# Altium schematic symbol library Thermistor - NTC.SchLib: 283 symbols (part 2 of 5)
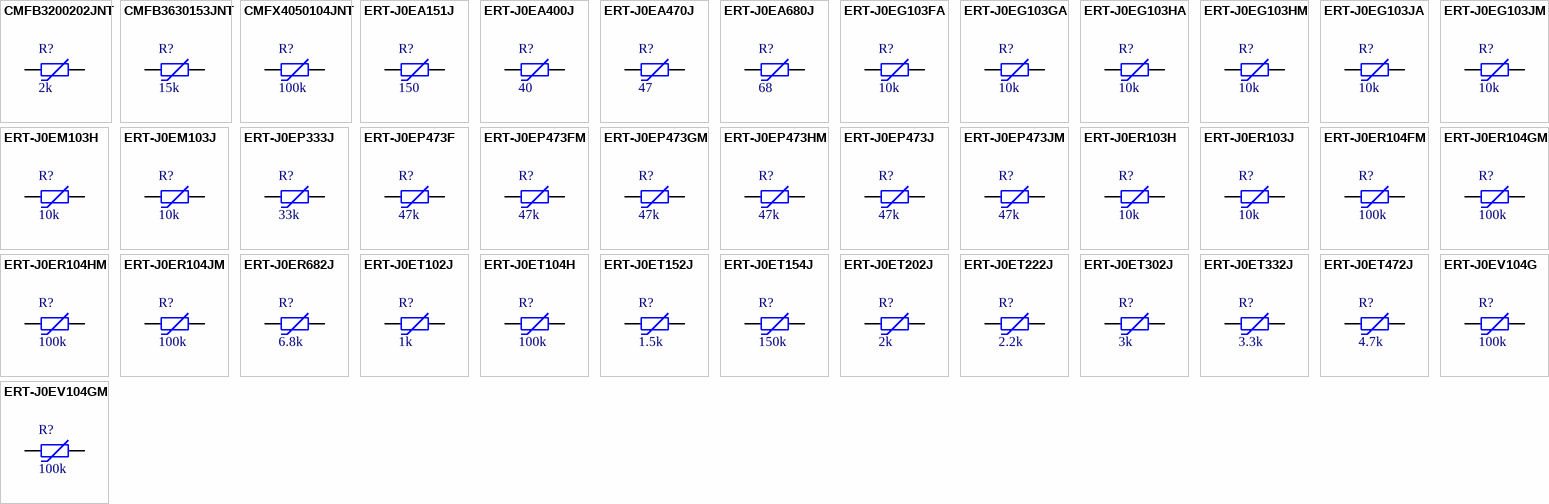
[diagram p8: symbols CMFB3200202JNT to ERT-J0EV104GM]

## ERT-J0ER104GM
designator R?  Resistance in Ohms @ 25C: 100k
SIZE 0402 / RESISTANCE TOLERANCE; Part Number: ERT-J0ER104GM; Manufacturer: Panasonic Electronic Components; Value: 100k; TemperatureRange: -40C ~ 150C; Resistance Tolerance: 2%; B Value Tolerance: 1%; B25/50: 4100K; B25/85: 4300K; Power - Max: 66mW; PartId: 16521; Supplier 1: Digi-Key; Supplier Part Number 1: P19108TR-ND; ComponentLink1Description: Datasheet; ComponentLink1URL: https://industrial.panasonic.com/cdbs/www-data/pdf/AUA0000/AUA0000CE2.pdf; ComponentLink2Description: Digi-Key Listing; ComponentLink2URL: https://www.digikey.com/product-detail/en/panasonic-electronic-components/ERT-J0ER104GM/P19108TR-ND/5878754; Price: 0.0642; Device Package: 0402 (1005 Metric)
footprint FER 0402/1005
pins: 1, 2

## ERT-J0ER104HM
designator R?  Resistance in Ohms @ 25C: 100k
SIZE 0402 / RESISTANCE TOLERANCE; Part Number: ERT-J0ER104HM; Manufacturer: Panasonic Electronic Components; Value: 100k; TemperatureRange: -40C ~ 150C; Resistance Tolerance: 3%; B Value Tolerance: 1%; B25/50: 4100K; B25/85: 4300K; Power - Max: 66mW; PartId: 16524; Supplier 1: Digi-Key; Supplier Part Number 1: P19109TR-ND; ComponentLink1Description: Datasheet; ComponentLink1URL: https://industrial.panasonic.com/cdbs/www-data/pdf/AUA0000/AUA0000CE2.pdf; ComponentLink2Description: Digi-Key Listing; ComponentLink2URL: https://www.digikey.com/product-detail/en/panasonic-electronic-components/ERT-J0ER104HM/P19109TR-ND/5878755; Price: 0.056; Device Package: 0402 (1005 Metric)
footprint FER 0402/1005
pins: 1, 2

## ERT-J0ER104JM
designator R?  Resistance in Ohms @ 25C: 100k
SIZE 0402 / RESISTANCE TOLERANCE; Part Number: ERT-J0ER104JM; Manufacturer: Panasonic Electronic Components; Value: 100k; TemperatureRange: -40C ~ 150C; Resistance Tolerance: 5%; B Value Tolerance: 1%; B25/50: 4100K; B25/85: 4300K; Power - Max: 66mW; PartId: 16527; Supplier 1: Digi-Key; Supplier Part Number 1: P19110TR-ND; ComponentLink1Description: Datasheet; ComponentLink1URL: https://industrial.panasonic.com/cdbs/www-data/pdf/AUA0000/AUA0000CE2.pdf; ComponentLink2Description: Digi-Key Listing; ComponentLink2URL: https://www.digikey.com/product-detail/en/panasonic-electronic-components/ERT-J0ER104JM/P19110TR-ND/5878756; Price: 0.0465; Device Package: 0402 (1005 Metric)
footprint FER 0402/1005
pins: 1, 2

## ERT-J0ER682J
designator R?  Resistance in Ohms @ 25C: 6.8k
THERMISTOR NTC 6.8K OHM 5% 0402; Part Number: ERT-J0ER682J; Manufacturer: Panasonic Electronic Components; TemperatureRange: -40C ~ 125C; B Value Tolerance: 2%; B25/50: 4250K; B25/85: 4300K; Power - Max: 66mW; Value: 6.8k; PartId: 16554; Supplier 1: Digi-Key; Supplier Part Number 1: P10573TR-ND; ComponentLink1Description: Datasheet; ComponentLink1URL: http://industrial.panasonic.com/www-cgi/jvcr13pz.cgi?E+PZ+3+AUA0001+ERTJ0ER682J+7+WW; ComponentLink2Description: Digi-Key Listing; ComponentLink2URL: https://www.digikey.com/product-detail/en/panasonic-electronic-components/ERT-J0ER682J/P10573TR-ND/269379; Price: 0.0616; Resistance Tolerance: 5%; Device Package: 0402 (1005 Metric)
footprint FER 0402/1005
pins: 1, 2

## ERT-J0ET102J
designator R?  Resistance in Ohms @ 25C: 1k
THERMISTOR NTC 1K OHM 5% 0402; Part Number: ERT-J0ET102J; Manufacturer: Panasonic Electronic Components; TemperatureRange: -40C ~ 125C; B Value Tolerance: 2%; B25/50: 4500K; B25/85: 4450K; Power - Max: 66mW; Value: 1k; PartId: 16569; Supplier 1: Digi-Key; Supplier Part Number 1: P10564TR-ND; ComponentLink1Description: Datasheet; ComponentLink1URL: http://industrial.panasonic.com/www-cgi/jvcr13pz.cgi?E+PZ+3+AUA0001+ERTJ0ET102J+7+WW; ComponentLink2Description: Digi-Key Listing; ComponentLink2URL: https://www.digikey.com/product-detail/en/panasonic-electronic-components/ERT-J0ET102J/P10564TR-ND/269370; Price: 0.0616; Resistance Tolerance: 5%; Device Package: 0402 (1005 Metric)
footprint FER 0402/1005
pins: 1, 2

## ERT-J0ET104H
designator R?  Resistance in Ohms @ 25C: 100k
THERMISTOR NTC 100K OHM 3% 0402; Part Number: ERT-J0ET104H; Manufacturer: Panasonic Electronic Components; TemperatureRange: -40C ~ 125C; B Value Tolerance: 2%; B25/50: 4500K; B25/85: 4450K; Power - Max: 66mW; Value: 100k; PartId: 16507; Supplier 1: Digi-Key; Supplier Part Number 1: P13704TR-ND; ComponentLink1Description: Datasheet; ComponentLink1URL: http://industrial.panasonic.com/www-cgi/jvcr13pz.cgi?E+PZ+3+AUA0001+ERTJ0ET104H+7+WW; ComponentLink2Description: Digi-Key Listing; ComponentLink2URL: https://www.digikey.com/product-detail/en/panasonic-electronic-components/ERT-J0ET104H/P13704TR-ND/1632231; Price: 0.0843; Resistance Tolerance: 3%; Device Package: 0402 (1005 Metric)
footprint FER 0402/1005
pins: 1, 2

## ERT-J0ET152J
designator R?  Resistance in Ohms @ 25C: 1.5k
THERMISTOR NTC 1.5K OHM 5% 0402; Part Number: ERT-J0ET152J; Manufacturer: Panasonic Electronic Components; TemperatureRange: -40C ~ 125C; B Value Tolerance: 2%; B25/50: 4500K; B25/85: 4450K; Power - Max: 66mW; Value: 1.5k; PartId: 16548; Supplier 1: Digi-Key; Supplier Part Number 1: P10565TR-ND; ComponentLink1Description: Datasheet; ComponentLink1URL: http://industrial.panasonic.com/www-cgi/jvcr13pz.cgi?E+PZ+3+AUA0001+ERTJ0ET152J+7+WW; ComponentLink2Description: Digi-Key Listing; ComponentLink2URL: https://www.digikey.com/product-detail/en/panasonic-electronic-components/ERT-J0ET152J/P10565TR-ND/269371; Price: 0.0616; Resistance Tolerance: 5%; Device Package: 0402 (1005 Metric)
footprint FER 0402/1005
pins: 1, 2

## ERT-J0ET154J
designator R?  Resistance in Ohms @ 25C: 150k
THERMISTOR NTC 150K OHM 5% 0402; Part Number: ERT-J0ET154J; Manufacturer: Panasonic Electronic Components; TemperatureRange: -40C ~ 125C; B Value Tolerance: 2%; B25/50: 4500K; B25/85: 4450K; Power - Max: 66mW; Value: 150k; PartId: 16542; Supplier 1: Digi-Key; Supplier Part Number 1: P13581TR-ND; ComponentLink1Description: Datasheet; ComponentLink1URL: http://industrial.panasonic.com/www-cgi/jvcr13pz.cgi?E+PZ+3+AUA0001+ERTJ0ET154J+7+WW; ComponentLink2Description: Digi-Key Listing; ComponentLink2URL: https://www.digikey.com/product-detail/en/panasonic-electronic-components/ERT-J0ET154J/P13581TR-ND/1140498; Price: 0.1471; Resistance Tolerance: 5%; Device Package: 0402 (1005 Metric)
footprint FER 0402/1005
pins: 1, 2

## ERT-J0ET202J
designator R?  Resistance in Ohms @ 25C: 2k
THERMISTOR NTC 2.0K OHM 5% 0402; Part Number: ERT-J0ET202J; Manufacturer: Panasonic Electronic Components; Value: 2k; TemperatureRange: -40C ~ 125C; B Value Tolerance: 2%; B25/50: 4500K; B25/85: 4450K; Power - Max: 66mW; PartId: 16498; Supplier 1: Digi-Key; Supplier Part Number 1: P10566TR-ND; ComponentLink1Description: Datasheet; ComponentLink1URL: http://industrial.panasonic.com/www-cgi/jvcr13pz.cgi?E+PZ+3+AUA0001+ERTJ0ET202J+7+WW; ComponentLink2Description: Digi-Key Listing; ComponentLink2URL: https://www.digikey.com/product-detail/en/panasonic-electronic-components/ERT-J0ET202J/P10566TR-ND/269372; Price: 0.0616; Resistance Tolerance: 5%; Device Package: 0402 (1005 Metric)
footprint FER 0402/1005
pins: 1, 2

## ERT-J0ET222J
designator R?  Resistance in Ohms @ 25C: 2.2k
THERMISTOR NTC 2.2K OHM 5% 0402; Part Number: ERT-J0ET222J; Manufacturer: Panasonic Electronic Components; TemperatureRange: -40C ~ 125C; B Value Tolerance: 2%; B25/50: 4500K; B25/85: 4450K; Power - Max: 66mW; Value: 2.2k; PartId: 16556; Supplier 1: Digi-Key; Supplier Part Number 1: P10567TR-ND; ComponentLink1Description: Datasheet; ComponentLink1URL: http://industrial.panasonic.com/www-cgi/jvcr13pz.cgi?E+PZ+3+AUA0001+ERTJ0ET222J+7+WW; ComponentLink2Description: Digi-Key Listing; ComponentLink2URL: https://www.digikey.com/product-detail/en/panasonic-electronic-components/ERT-J0ET222J/P10567TR-ND/269373; Price: 0.0616; Resistance Tolerance: 5%; Device Package: 0402 (1005 Metric)
footprint FER 0402/1005
pins: 1, 2

## ERT-J0ET302J
designator R?  Resistance in Ohms @ 25C: 3k
THERMISTOR NTC 3.0K OHM 5% 0402; Part Number: ERT-J0ET302J; Manufacturer: Panasonic Electronic Components; Value: 3k; TemperatureRange: -40C ~ 125C; B Value Tolerance: 2%; B25/50: 4500K; B25/85: 4450K; Power - Max: 66mW; PartId: 16489; Supplier 1: Digi-Key; Supplier Part Number 1: P10568TR-ND; ComponentLink1Description: Datasheet; ComponentLink1URL: http://industrial.panasonic.com/www-cgi/jvcr13pz.cgi?E+PZ+3+AUA0001+ERTJ0ET302J+7+WW; ComponentLink2Description: Digi-Key Listing; ComponentLink2URL: https://www.digikey.com/product-detail/en/panasonic-electronic-components/ERT-J0ET302J/P10568TR-ND/269374; Price: 0.0616; Resistance Tolerance: 5%; Device Package: 0402 (1005 Metric)
footprint FER 0402/1005
pins: 1, 2

## ERT-J0ET332J
designator R?  Resistance in Ohms @ 25C: 3.3k
THERMISTOR NTC 3.3K OHM 5% 0402; Part Number: ERT-J0ET332J; Manufacturer: Panasonic Electronic Components; TemperatureRange: -40C ~ 125C; B Value Tolerance: 2%; B25/50: 4500K; B25/85: 4450K; Power - Max: 66mW; Value: 3.3k; PartId: 16555; Supplier 1: Digi-Key; Supplier Part Number 1: P10569TR-ND; ComponentLink1Description: Datasheet; ComponentLink1URL: http://industrial.panasonic.com/www-cgi/jvcr13pz.cgi?E+PZ+3+AUA0001+ERTJ0ET332J+7+WW; ComponentLink2Description: Digi-Key Listing; ComponentLink2URL: https://www.digikey.com/product-detail/en/panasonic-electronic-components/ERT-J0ET332J/P10569TR-ND/269375; Price: 0.0616; Resistance Tolerance: 5%; Device Package: 0402 (1005 Metric)
footprint FER 0402/1005
pins: 1, 2

## ERT-J0ET472J
designator R?  Resistance in Ohms @ 25C: 4.7k
THERMISTOR NTC 4.7K OHM 5% 0402; Part Number: ERT-J0ET472J; Manufacturer: Panasonic Electronic Components; TemperatureRange: -40C ~ 125C; B Value Tolerance: 2%; B25/50: 4500K; B25/85: 4450K; Power - Max: 66mW; Value: 4.7k; PartId: 16547; Supplier 1: Digi-Key; Supplier Part Number 1: P10570TR-ND; ComponentLink1Description: Datasheet; ComponentLink1URL: http://industrial.panasonic.com/www-cgi/jvcr13pz.cgi?E+PZ+3+AUA0001+ERTJ0ET472J+7+WW; ComponentLink2Description: Digi-Key Listing; ComponentLink2URL: https://www.digikey.com/product-detail/en/panasonic-electronic-components/ERT-J0ET472J/P10570TR-ND/269376; Price: 0.0616; Resistance Tolerance: 5%; Device Package: 0402 (1005 Metric)
footprint FER 0402/1005
pins: 1, 2

## ERT-J0EV104G
designator R?  Resistance in Ohms @ 25C: 100k
THERMISTOR NTC 100K OHM 2% 0402; Part Number: ERT-J0EV104G; Manufacturer: Panasonic Electronic Components; TemperatureRange: -40C ~ 125C; B25/50: 4700K; B25/85: 4750K; Power - Max: 66mW; Value: 100k; PartId: 16492; Supplier 1: Digi-Key; Supplier Part Number 1: P13705TR-ND; ComponentLink1Description: Datasheet; ComponentLink1URL: http://industrial.panasonic.com/www-cgi/jvcr13pz.cgi?E+PZ+3+AUA0001+ERTJ0EV104G+7+WW; ComponentLink2Description: Digi-Key Listing; ComponentLink2URL: https://www.digikey.com/product-detail/en/panasonic-electronic-components/ERT-J0EV104G/P13705TR-ND/1632232; Price: 0.1159; Resistance Tolerance: 2%; B Value Tolerance: 2%; Device Package: 0402 (1005 Metric)
footprint FER 0402/1005
pins: 1, 2

## ERT-J0EV104GM
designator R?  Resistance in Ohms @ 25C: 100k
SIZE 0402 / RESISTANCE TOLERANCE; Part Number: ERT-J0EV104GM; Manufacturer: Panasonic Electronic Components; Value: 100k; TemperatureRange: -40C ~ 150C; Resistance Tolerance: 2%; B Value Tolerance: 1%; B25/50: 4700K; B25/85: 4750K; Power - Max: 66mW; PartId: 16522; Supplier 1: Digi-Key; Supplier Part Number 1: P19112TR-ND; ComponentLink1Description: Datasheet; ComponentLink1URL: https://industrial.panasonic.com/cdbs/www-data/pdf/AUA0000/AUA0000CE2.pdf; ComponentLink2Description: Digi-Key Listing; ComponentLink2URL: https://www.digikey.com/product-detail/en/panasonic-electronic-components/ERT-J0EV104GM/P19112TR-ND/5878758; Price: 0.0624; Device Package: 0402 (1005 Metric)
footprint FER 0402/1005
pins: 1, 2

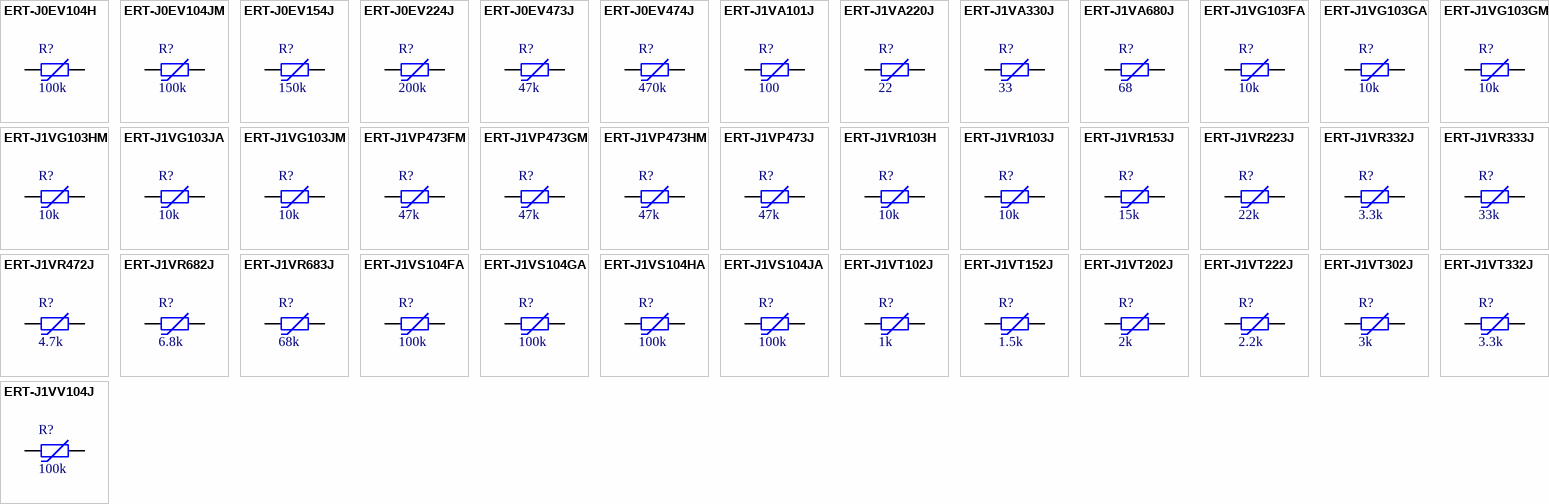
[diagram p2: symbols ERT-J0EV104H to ERT-J1VV104J]

## ERT-J0EV104H
designator R?  Resistance in Ohms @ 25C: 100k
THERMISTOR NTC 100K OHM 3% 0402; Part Number: ERT-J0EV104H; Manufacturer: Panasonic Electronic Components; TemperatureRange: -40C ~ 125C; B Value Tolerance: 2%; B25/50: 4700K; B25/85: 4750K; Power - Max: 66mW; Value: 100k; PartId: 16506; Supplier 1: Digi-Key; Supplier Part Number 1: P13706TR-ND; ComponentLink1Description: Datasheet; ComponentLink1URL: http://industrial.panasonic.com/www-cgi/jvcr13pz.cgi?E+PZ+3+AUA0001+ERTJ0EV104H+7+WW; ComponentLink2Description: Digi-Key Listing; ComponentLink2URL: https://www.digikey.com/product-detail/en/panasonic-electronic-components/ERT-J0EV104H/P13706TR-ND/1632233; Price: 0.0843; Resistance Tolerance: 3%; Device Package: 0402 (1005 Metric)
footprint FER 0402/1005
pins: 1, 2

## ERT-J0EV104JM
designator R?  Resistance in Ohms @ 25C: 100k
SIZE 0402 / RESISTANCE TOLERANCE; Part Number: ERT-J0EV104JM; Manufacturer: Panasonic Electronic Components; Value: 100k; TemperatureRange: -40C ~ 150C; Resistance Tolerance: 5%; B Value Tolerance: 1%; B25/50: 4700K; B25/85: 4750K; Power - Max: 66mW; PartId: 16528; Supplier 1: Digi-Key; Supplier Part Number 1: P19114TR-ND; ComponentLink1Description: Datasheet; ComponentLink1URL: https://industrial.panasonic.com/cdbs/www-data/pdf/AUA0000/AUA0000CE2.pdf; ComponentLink2Description: Digi-Key Listing; ComponentLink2URL: https://www.digikey.com/product-detail/en/panasonic-electronic-components/ERT-J0EV104JM/P19114TR-ND/5878760; Price: 0.0444; Device Package: 0402 (1005 Metric)
footprint FER 0402/1005
pins: 1, 2

## ERT-J0EV154J
designator R?  Resistance in Ohms @ 25C: 150k
THERMISTOR NTC 150K OHM 5% 0402; Part Number: ERT-J0EV154J; Manufacturer: Panasonic Electronic Components; TemperatureRange: -40C ~ 125C; B Value Tolerance: 2%; B25/50: 4700K; B25/85: 4750K; Power - Max: 66mW; Value: 150k; PartId: 16496; Supplier 1: Digi-Key; Supplier Part Number 1: P11443TR-ND; ComponentLink1Description: Datasheet; ComponentLink1URL: http://industrial.panasonic.com/www-cgi/jvcr13pz.cgi?E+PZ+3+AUA0001+ERTJ0EV154J+7+WW; ComponentLink2Description: Digi-Key Listing; ComponentLink2URL: https://www.digikey.com/product-detail/en/panasonic-electronic-components/ERT-J0EV154J/P11443TR-ND/429296; Price: 0.0661; Resistance Tolerance: 5%; Device Package: 0402 (1005 Metric)
footprint FER 0402/1005
pins: 1, 2

## ERT-J0EV224J
designator R?  Resistance in Ohms @ 25C: 200k
THERMISTOR NTC 220K OHM 5% 0402; Part Number: ERT-J0EV224J; Manufacturer: Panasonic Electronic Components; Value: 200k; TemperatureRange: -40C ~ 125C; B Value Tolerance: 2%; B25/50: 4700K; B25/85: 4750K; Power - Max: 66mW; PartId: 16553; Supplier 1: Digi-Key; Supplier Part Number 1: P11444TR-ND; ComponentLink1Description: Datasheet; ComponentLink1URL: http://industrial.panasonic.com/www-cgi/jvcr13pz.cgi?E+PZ+3+AUA0001+ERTJ0EV224J+7+WW; ComponentLink2Description: Digi-Key Listing; ComponentLink2URL: https://www.digikey.com/product-detail/en/panasonic-electronic-components/ERT-J0EV224J/P11444TR-ND/429297; Price: 0.0661; Resistance Tolerance: 5%; Device Package: 0402 (1005 Metric)
footprint FER 0402/1005
pins: 1, 2

## ERT-J0EV473J
designator R?  Resistance in Ohms @ 25C: 47k
THERMISTOR NTC 47K OHM 5% 0402; Part Number: ERT-J0EV473J; Manufacturer: Panasonic Electronic Components; TemperatureRange: -40C ~ 125C; B Value Tolerance: 2%; B25/50: 4700K; B25/85: 4750K; Power - Max: 66mW; Value: 47k; PartId: 16546; Supplier 1: Digi-Key; Supplier Part Number 1: P10578TR-ND; ComponentLink1Description: Datasheet; ComponentLink1URL: http://industrial.panasonic.com/www-cgi/jvcr13pz.cgi?E+PZ+3+AUA0001+ERTJ0EV473J+7+WW; ComponentLink2Description: Digi-Key Listing; ComponentLink2URL: https://www.digikey.com/product-detail/en/panasonic-electronic-components/ERT-J0EV473J/P10578TR-ND/269384; Price: 0.0661; Resistance Tolerance: 5%; Device Package: 0402 (1005 Metric)
footprint FER 0402/1005
pins: 1, 2

## ERT-J0EV474J
designator R?  Resistance in Ohms @ 25C: 470k
THERMISTOR NTC 470K OHM 5% 0402; Part Number: ERT-J0EV474J; Manufacturer: Panasonic Electronic Components; TemperatureRange: -40C ~ 125C; B Value Tolerance: 2%; B25/50: 4700K; B25/85: 4750K; Power - Max: 66mW; Value: 470k; PartId: 16483; Supplier 1: Digi-Key; Supplier Part Number 1: P11446TR-ND; ComponentLink1Description: Datasheet; ComponentLink1URL: http://industrial.panasonic.com/www-cgi/jvcr13pz.cgi?E+PZ+3+AUA0001+ERTJ0EV474J+7+WW; ComponentLink2Description: Digi-Key Listing; ComponentLink2URL: https://www.digikey.com/product-detail/en/panasonic-electronic-components/ERT-J0EV474J/P11446TR-ND/429299; Price: 0.0661; Resistance Tolerance: 5%; Device Package: 0402 (1005 Metric)
footprint FER 0402/1005
pins: 1, 2

## ERT-J1VA101J
designator R?  Resistance in Ohms @ 25C: 100
THERMISTOR NTC 100 OHM 5% 0603; Part Number: ERT-J1VA101J; Manufacturer: Panasonic Electronic Components; Value: 100; TemperatureRange: -40C ~ 125C; B Value Tolerance: 3%; B25/50: 2800K; B25/85: 2750K; Power - Max: 100mW; PartId: 16581; Supplier 1: Digi-Key; Supplier Part Number 1: P10536TR-ND; ComponentLink1Description: Datasheet; ComponentLink1URL: http://industrial.panasonic.com/www-cgi/jvcr13pz.cgi?E+PZ+3+AUA0001+ERTJ1VA101J+7+WW; ComponentLink2Description: Digi-Key Listing; ComponentLink2URL: https://www.digikey.com/product-detail/en/panasonic-electronic-components/ERT-J1VA101J/P10536TR-ND/269342; Price: 0.1058; Resistance Tolerance: 5%; Device Package: 0603 (1608 Metric)
footprint FER 0603/1608
pins: 1, 2

## ERT-J1VA220J
designator R?  Resistance in Ohms @ 25C: 22
THERMISTOR NTC 22 OHM 5% 0603; Part Number: ERT-J1VA220J; Manufacturer: Panasonic Electronic Components; Value: 22; TemperatureRange: -40C ~ 125C; B Value Tolerance: 3%; B25/50: 2750K; B25/85: 2700K; Power - Max: 100mW; PartId: 16690; Supplier 1: Digi-Key; Supplier Part Number 1: P10531TR-ND; ComponentLink1Description: Datasheet; ComponentLink1URL: http://industrial.panasonic.com/www-cgi/jvcr13pz.cgi?E+PZ+3+AUA0001+ERTJ1VA220J+7+WW; ComponentLink2Description: Digi-Key Listing; ComponentLink2URL: https://www.digikey.com/product-detail/en/panasonic-electronic-components/ERT-J1VA220J/P10531TR-ND/269337; Price: 0.1058; Resistance Tolerance: 5%; Device Package: 0603 (1608 Metric)
footprint FER 0603/1608
pins: 1, 2

## ERT-J1VA330J
designator R?  Resistance in Ohms @ 25C: 33
THERMISTOR NTC 33 OHM 5% 0603; Part Number: ERT-J1VA330J; Manufacturer: Panasonic Electronic Components; Value: 33; TemperatureRange: -40C ~ 125C; B Value Tolerance: 3%; B25/50: 2750K; B25/85: 2700K; Power - Max: 100mW; PartId: 16689; Supplier 1: Digi-Key; Supplier Part Number 1: P10532TR-ND; ComponentLink1Description: Datasheet; ComponentLink1URL: http://industrial.panasonic.com/www-cgi/jvcr13pz.cgi?E+PZ+3+AUA0001+ERTJ1VA330J+7+WW; ComponentLink2Description: Digi-Key Listing; ComponentLink2URL: https://www.digikey.com/product-detail/en/panasonic-electronic-components/ERT-J1VA330J/P10532TR-ND/269338; Price: 0.1058; Resistance Tolerance: 5%; Device Package: 0603 (1608 Metric)
footprint FER 0603/1608
pins: 1, 2

## ERT-J1VA680J
designator R?  Resistance in Ohms @ 25C: 68
THERMISTOR NTC 68 OHM 5% 0603; Part Number: ERT-J1VA680J; Manufacturer: Panasonic Electronic Components; Value: 68; TemperatureRange: -40C ~ 125C; B Value Tolerance: 3%; B25/50: 2800K; B25/85: 2750K; Power - Max: 100mW; PartId: 16619; Supplier 1: Digi-Key; Supplier Part Number 1: P10535TR-ND; ComponentLink1Description: Datasheet; ComponentLink1URL: http://industrial.panasonic.com/www-cgi/jvcr13pz.cgi?E+PZ+3+AUA0001+ERTJ1VA680J+7+WW; ComponentLink2Description: Digi-Key Listing; ComponentLink2URL: https://www.digikey.com/product-detail/en/panasonic-electronic-components/ERT-J1VA680J/P10535TR-ND/269341; Price: 0.1058; Resistance Tolerance: 5%; Device Package: 0603 (1608 Metric)
footprint FER 0603/1608
pins: 1, 2

## ERT-J1VG103FA
designator R?  Resistance in Ohms @ 25C: 10k
THERMISTOR NTC 10K OHM 1% 0603; Part Number: ERT-J1VG103FA; Manufacturer: Panasonic Electronic Components; TemperatureRange: -40C ~ 125C; B25/50: 3375K; B25/85: 3435K; Power - Max: 100mW; Value: 10k; PartId: 16577; Supplier 1: Digi-Key; Supplier Part Number 1: P12011TR-ND; ComponentLink1Description: Datasheet; ComponentLink1URL: http://industrial.panasonic.com/www-cgi/jvcr13pz.cgi?E+PZ+3+AUA0001+ERTJ1VG103FA+7+WW; ComponentLink2Description: Digi-Key Listing; ComponentLink2URL: https://www.digikey.com/product-detail/en/panasonic-electronic-components/ERT-J1VG103FA/P12011TR-ND/526532; Price: 0.1595; Resistance Tolerance: 1%; B Value Tolerance: 1%; Device Package: 0603 (1608 Metric)
footprint FER 0603/1608
pins: 1, 2

## ERT-J1VG103GA
designator R?  Resistance in Ohms @ 25C: 10k
THERMISTOR NTC 10K OHM 2% 0603; Part Number: ERT-J1VG103GA; Manufacturer: Panasonic Electronic Components; TemperatureRange: -40C ~ 125C; B Value Tolerance: 1%; B25/50: 3375K; B25/85: 3435K; Power - Max: 100mW; Value: 10k; PartId: 16680; Supplier 1: Digi-Key; Supplier Part Number 1: P12012TR-ND; ComponentLink1Description: Datasheet; ComponentLink1URL: http://industrial.panasonic.com/www-cgi/jvcr13pz.cgi?E+PZ+3+AUA0001+ERTJ1VG103GA+7+WW; ComponentLink2Description: Digi-Key Listing; ComponentLink2URL: https://www.digikey.com/product-detail/en/panasonic-electronic-components/ERT-J1VG103GA/P12012TR-ND/526533; Price: 0.1474; Resistance Tolerance: 2%; Device Package: 0603 (1608 Metric)
footprint FER 0603/1608
pins: 1, 2

## ERT-J1VG103GM
designator R?  Resistance in Ohms @ 25C: 10k
SIZE 0603 / RESISTANCE TOLERANCE; Part Number: ERT-J1VG103GM; Manufacturer: Panasonic Electronic Components; Value: 10k; TemperatureRange: -40C ~ 150C; Resistance Tolerance: 2%; B Value Tolerance: 1%; B25/50: 3380K; B25/85: 3435K; Power - Max: 100mW; PartId: 16657; Supplier 1: Digi-Key; Supplier Part Number 1: P19116TR-ND; ComponentLink1Description: Datasheet; ComponentLink1URL: https://industrial.panasonic.com/cdbs/www-data/pdf/AUA0000/AUA0000CE2.pdf; ComponentLink2Description: Digi-Key Listing; ComponentLink2URL: https://www.digikey.com/product-detail/en/panasonic-electronic-components/ERT-J1VG103GM/P19116TR-ND/5878762; Price: 0.1295; Device Package: 0603 (1608 Metric)
footprint FER 0603/1608
pins: 1, 2

## ERT-J1VG103HM
designator R?  Resistance in Ohms @ 25C: 10k
SIZE 0603 / RESISTANCE TOLERANCE; Part Number: ERT-J1VG103HM; Manufacturer: Panasonic Electronic Components; Value: 10k; TemperatureRange: -40C ~ 150C; Resistance Tolerance: 3%; B Value Tolerance: 1%; B25/50: 3380K; B25/85: 3435K; Power - Max: 100mW; PartId: 16662; Supplier 1: Digi-Key; Supplier Part Number 1: P19117TR-ND; ComponentLink1Description: Datasheet; ComponentLink1URL: https://industrial.panasonic.com/cdbs/www-data/pdf/AUA0000/AUA0000CE2.pdf; ComponentLink2Description: Digi-Key Listing; ComponentLink2URL: https://www.digikey.com/product-detail/en/panasonic-electronic-components/ERT-J1VG103HM/P19117TR-ND/5878763; Price: 0.1221; Device Package: 0603 (1608 Metric)
footprint FER 0603/1608
pins: 1, 2

## ERT-J1VG103JA
designator R?  Resistance in Ohms @ 25C: 10k
THERMISTOR NTC 10K OHM 5% 0603; Part Number: ERT-J1VG103JA; Manufacturer: Panasonic Electronic Components; TemperatureRange: -40C ~ 125C; B Value Tolerance: 1%; B25/50: 3375K; B25/85: 3435K; Power - Max: 100mW; Value: 10k; PartId: 16593; Supplier 1: Digi-Key; Supplier Part Number 1: P12014TR-ND; ComponentLink1Description: Datasheet; ComponentLink1URL: http://industrial.panasonic.com/www-cgi/jvcr13pz.cgi?E+PZ+3+AUA0001+ERTJ1VG103JA+7+WW; ComponentLink2Description: Digi-Key Listing; ComponentLink2URL: https://www.digikey.com/product-detail/en/panasonic-electronic-components/ERT-J1VG103JA/P12014TR-ND/526535; Price: 0.0958; Resistance Tolerance: 5%; Device Package: 0603 (1608 Metric)
footprint FER 0603/1608
pins: 1, 2

## ERT-J1VG103JM
designator R?  Resistance in Ohms @ 25C: 10k
SIZE 0603 / RESISTANCE TOLERANCE; Part Number: ERT-J1VG103JM; Manufacturer: Panasonic Electronic Components; Value: 10k; TemperatureRange: -40C ~ 150C; Resistance Tolerance: 5%; B Value Tolerance: 1%; B25/50: 3380K; B25/85: 3435K; Power - Max: 100mW; PartId: 16663; Supplier 1: Digi-Key; Supplier Part Number 1: P19118TR-ND; ComponentLink1Description: Datasheet; ComponentLink1URL: https://industrial.panasonic.com/cdbs/www-data/pdf/AUA0000/AUA0000CE2.pdf; ComponentLink2Description: Digi-Key Listing; ComponentLink2URL: https://www.digikey.com/product-detail/en/panasonic-electronic-components/ERT-J1VG103JM/P19118TR-ND/5878764; Price: 0.111; Device Package: 0603 (1608 Metric)
footprint FER 0603/1608
pins: 1, 2

## ERT-J1VP473FM
designator R?  Resistance in Ohms @ 25C: 47k
SIZE 0603 / RESISTANCE TOLERANCE; Part Number: ERT-J1VP473FM; Manufacturer: Panasonic Electronic Components; Value: 47k; TemperatureRange: -40C ~ 150C; Resistance Tolerance: 1%; B25/50: 4100K; B25/85: 4150K; Power - Max: 100mW; PartId: 16640; Supplier 1: Digi-Key; Supplier Part Number 1: P19119TR-ND; ComponentLink1Description: Datasheet; ComponentLink1URL: https://industrial.panasonic.com/cdbs/www-data/pdf/AUA0000/AUA0000CE2.pdf; ComponentLink2Description: Digi-Key Listing; ComponentLink2URL: https://www.digikey.com/product-detail/en/panasonic-electronic-components/ERT-J1VP473FM/P19119TR-ND/5878765; Price: 0.1337; B Value Tolerance: 1%; Device Package: 0603 (1608 Metric)
footprint FER 0603/1608
pins: 1, 2

## ERT-J1VP473GM
designator R?  Resistance in Ohms @ 25C: 47k
SIZE 0603 / RESISTANCE TOLERANCE; Part Number: ERT-J1VP473GM; Manufacturer: Panasonic Electronic Components; Value: 47k; TemperatureRange: -40C ~ 150C; Resistance Tolerance: 2%; B Value Tolerance: 1%; B25/50: 4100K; B25/85: 4150K; Power - Max: 100mW; PartId: 16656; Supplier 1: Digi-Key; Supplier Part Number 1: P19120TR-ND; ComponentLink1Description: Datasheet; ComponentLink1URL: https://industrial.panasonic.com/cdbs/www-data/pdf/AUA0000/AUA0000CE2.pdf; ComponentLink2Description: Digi-Key Listing; ComponentLink2URL: https://www.digikey.com/product-detail/en/panasonic-electronic-components/ERT-J1VP473GM/P19120TR-ND/5878766; Price: 0.1295; Device Package: 0603 (1608 Metric)
footprint FER 0603/1608
pins: 1, 2

## ERT-J1VP473HM
designator R?  Resistance in Ohms @ 25C: 47k
SIZE 0603 / RESISTANCE TOLERANCE; Part Number: ERT-J1VP473HM; Manufacturer: Panasonic Electronic Components; Value: 47k; TemperatureRange: -40C ~ 150C; Resistance Tolerance: 3%; B Value Tolerance: 1%; B25/50: 4100K; B25/85: 4150K; Power - Max: 100mW; PartId: 16661; Supplier 1: Digi-Key; Supplier Part Number 1: P19121TR-ND; ComponentLink1Description: Datasheet; ComponentLink1URL: https://industrial.panasonic.com/cdbs/www-data/pdf/AUA0000/AUA0000CE2.pdf; ComponentLink2Description: Digi-Key Listing; ComponentLink2URL: https://www.digikey.com/product-detail/en/panasonic-electronic-components/ERT-J1VP473HM/P19121TR-ND/5878767; Price: 0.1221; Device Package: 0603 (1608 Metric)
footprint FER 0603/1608
pins: 1, 2

## ERT-J1VP473J
designator R?  Resistance in Ohms @ 25C: 47k
THERMISTOR NTC 47K OHM 5% 0603; Part Number: ERT-J1VP473J; Manufacturer: Panasonic Electronic Components; TemperatureRange: -40C ~ 125C; B Value Tolerance: 2%; B25/50: 4050K; B25/85: 4100K; Power - Max: 100mW; Value: 47k; PartId: 16586; Supplier 1: Digi-Key; Supplier Part Number 1: P12015TR-ND; ComponentLink1Description: Datasheet; ComponentLink1URL: http://industrial.panasonic.com/www-cgi/jvcr13pz.cgi?E+PZ+3+AUA0001+ERTJ1VP473J+7+WW; ComponentLink2Description: Digi-Key Listing; ComponentLink2URL: https://www.digikey.com/product-detail/en/panasonic-electronic-components/ERT-J1VP473J/P12015TR-ND/526536; Price: 0.094; Resistance Tolerance: 5%; Device Package: 0603 (1608 Metric)
footprint FER 0603/1608
pins: 1, 2

## ERT-J1VR103H
designator R?  Resistance in Ohms @ 25C: 10k
THERMISTOR NTC 10K OHM 3% 0603; Part Number: ERT-J1VR103H; Manufacturer: Panasonic Electronic Components; TemperatureRange: -40C ~ 125C; B Value Tolerance: 2%; B25/50: 4250K; B25/85: 4300K; Power - Max: 100mW; Value: 10k; PartId: 16611; Supplier 1: Digi-Key; Supplier Part Number 1: P13707TR-ND; ComponentLink1Description: Datasheet; ComponentLink1URL: http://industrial.panasonic.com/www-cgi/jvcr13pz.cgi?E+PZ+3+AUA0001+ERTJ1VR103H+7+WW; ComponentLink2Description: Digi-Key Listing; ComponentLink2URL: https://www.digikey.com/product-detail/en/panasonic-electronic-components/ERT-J1VR103H/P13707TR-ND/486493; Price: 0.1128; Resistance Tolerance: 3%; Device Package: 0603 (1608 Metric)
footprint FER 0603/1608
pins: 1, 2

## ERT-J1VR103J
designator R?  Resistance in Ohms @ 25C: 10k
THERMISTOR NTC 10K OHM 5% 0603; Part Number: ERT-J1VR103J; Manufacturer: Panasonic Electronic Components; TemperatureRange: -40C ~ 125C; B Value Tolerance: 2%; B25/50: 4250K; B25/85: 4300K; Power - Max: 100mW; Value: 10k; PartId: 16590; Supplier 1: Digi-Key; Supplier Part Number 1: P10547TR-ND; ComponentLink1Description: Datasheet; ComponentLink1URL: http://industrial.panasonic.com/www-cgi/jvcr13pz.cgi?E+PZ+3+AUA0001+ERTJ1VR103J+7+WW; ComponentLink2Description: Digi-Key Listing; ComponentLink2URL: https://www.digikey.com/product-detail/en/panasonic-electronic-components/ERT-J1VR103J/P10547TR-ND/269353; Price: 0.094; Resistance Tolerance: 5%; Device Package: 0603 (1608 Metric)
footprint FER 0603/1608
pins: 1, 2

## ERT-J1VR153J
designator R?  Resistance in Ohms @ 25C: 15k
THERMISTOR NTC 15K OHM 5% 0603; Part Number: ERT-J1VR153J; Manufacturer: Panasonic Electronic Components; TemperatureRange: -40C ~ 125C; B Value Tolerance: 2%; B25/50: 4250K; B25/85: 4300K; Power - Max: 100mW; Value: 15k; PartId: 16621; Supplier 1: Digi-Key; Supplier Part Number 1: P10548TR-ND; ComponentLink1Description: Datasheet; ComponentLink1URL: http://industrial.panasonic.com/www-cgi/jvcr13pz.cgi?E+PZ+3+AUA0001+ERTJ1VR153J+7+WW; ComponentLink2Description: Digi-Key Listing; ComponentLink2URL: https://www.digikey.com/product-detail/en/panasonic-electronic-components/ERT-J1VR153J/P10548TR-ND/269354; Price: 0.094; Resistance Tolerance: 5%; Device Package: 0603 (1608 Metric)
footprint FER 0603/1608
pins: 1, 2

## ERT-J1VR223J
designator R?  Resistance in Ohms @ 25C: 22k
THERMISTOR NTC 22K OHM 5% 0603; Part Number: ERT-J1VR223J; Manufacturer: Panasonic Electronic Components; TemperatureRange: -40C ~ 125C; B Value Tolerance: 2%; B25/50: 4250K; B25/85: 4300K; Power - Max: 100mW; Value: 22k; PartId: 16575; Supplier 1: Digi-Key; Supplier Part Number 1: P10549TR-ND; ComponentLink1Description: Datasheet; ComponentLink1URL: http://industrial.panasonic.com/www-cgi/jvcr13pz.cgi?E+PZ+3+AUA0001+ERTJ1VR223J+7+WW; ComponentLink2Description: Digi-Key Listing; ComponentLink2URL: https://www.digikey.com/product-detail/en/panasonic-electronic-components/ERT-J1VR223J/P10549TR-ND/269355; Price: 0.094; Resistance Tolerance: 5%; Device Package: 0603 (1608 Metric)
footprint FER 0603/1608
pins: 1, 2

## ERT-J1VR332J
designator R?  Resistance in Ohms @ 25C: 3.3k
THERMISTOR NTC 3.3K OHM 5% 0603; Part Number: ERT-J1VR332J; Manufacturer: Panasonic Electronic Components; TemperatureRange: -40C ~ 125C; B Value Tolerance: 2%; B25/50: 4250K; B25/85: 4300K; Power - Max: 100mW; Value: 3.3k; PartId: 16600; Supplier 1: Digi-Key; Supplier Part Number 1: P10544TR-ND; ComponentLink1Description: Datasheet; ComponentLink1URL: http://industrial.panasonic.com/www-cgi/jvcr13pz.cgi?E+PZ+3+AUA0001+ERTJ1VR332J+7+WW; ComponentLink2Description: Digi-Key Listing; ComponentLink2URL: https://www.digikey.com/product-detail/en/panasonic-electronic-components/ERT-J1VR332J/P10544TR-ND/269350; Price: 0.094; Resistance Tolerance: 5%; Device Package: 0603 (1608 Metric)
footprint FER 0603/1608
pins: 1, 2

## ERT-J1VR333J
designator R?  Resistance in Ohms @ 25C: 33k
THERMISTOR NTC 33K OHM 5% 0603; Part Number: ERT-J1VR333J; Manufacturer: Panasonic Electronic Components; TemperatureRange: -40C ~ 125C; B Value Tolerance: 2%; B25/50: 4250K; B25/85: 4300K; Power - Max: 100mW; Value: 33k; PartId: 16607; Supplier 1: Digi-Key; Supplier Part Number 1: P10550TR-ND; ComponentLink1Description: Datasheet; ComponentLink1URL: http://industrial.panasonic.com/www-cgi/jvcr13pz.cgi?E+PZ+3+AUA0001+ERTJ1VR333J+7+WW; ComponentLink2Description: Digi-Key Listing; ComponentLink2URL: https://www.digikey.com/product-detail/en/panasonic-electronic-components/ERT-J1VR333J/P10550TR-ND/269356; Price: 0.094; Resistance Tolerance: 5%; Device Package: 0603 (1608 Metric)
footprint FER 0603/1608
pins: 1, 2

## ERT-J1VR472J
designator R?  Resistance in Ohms @ 25C: 4.7k
THERMISTOR NTC 4.7K OHM 5% 0603; Part Number: ERT-J1VR472J; Manufacturer: Panasonic Electronic Components; TemperatureRange: -40C ~ 125C; B Value Tolerance: 2%; B25/50: 4250K; B25/85: 4300K; Power - Max: 100mW; Value: 4.7k; PartId: 16681; Supplier 1: Digi-Key; Supplier Part Number 1: P10545TR-ND; ComponentLink1Description: Datasheet; ComponentLink1URL: http://industrial.panasonic.com/www-cgi/jvcr13pz.cgi?E+PZ+3+AUA0001+ERTJ1VR472J+7+WW; ComponentLink2Description: Digi-Key Listing; ComponentLink2URL: https://www.digikey.com/product-detail/en/panasonic-electronic-components/ERT-J1VR472J/P10545TR-ND/269351; Price: 0.094; Resistance Tolerance: 5%; Device Package: 0603 (1608 Metric)
footprint FER 0603/1608
pins: 1, 2

## ERT-J1VR682J
designator R?  Resistance in Ohms @ 25C: 6.8k
THERMISTOR NTC 6.8K OHM 5% 0603; Part Number: ERT-J1VR682J; Manufacturer: Panasonic Electronic Components; TemperatureRange: -40C ~ 125C; B Value Tolerance: 2%; B25/50: 4250K; B25/85: 4300K; Power - Max: 100mW; Value: 6.8k; PartId: 16588; Supplier 1: Digi-Key; Supplier Part Number 1: P10546TR-ND; ComponentLink1Description: Datasheet; ComponentLink1URL: http://industrial.panasonic.com/www-cgi/jvcr13pz.cgi?E+PZ+3+AUA0001+ERTJ1VR682J+7+WW; ComponentLink2Description: Digi-Key Listing; ComponentLink2URL: https://www.digikey.com/product-detail/en/panasonic-electronic-components/ERT-J1VR682J/P10546TR-ND/269352; Price: 0.094; Resistance Tolerance: 5%; Device Package: 0603 (1608 Metric)
footprint FER 0603/1608
pins: 1, 2

## ERT-J1VR683J
designator R?  Resistance in Ohms @ 25C: 68k
THERMISTOR NTC 68K OHM 5% 0603; Part Number: ERT-J1VR683J; Manufacturer: Panasonic Electronic Components; TemperatureRange: -40C ~ 125C; B Value Tolerance: 2%; B25/50: 4250K; B25/85: 4300K; Power - Max: 100mW; Value: 68k; PartId: 16598; Supplier 1: Digi-Key; Supplier Part Number 1: P10552TR-ND; ComponentLink1Description: Datasheet; ComponentLink1URL: http://industrial.panasonic.com/www-cgi/jvcr13pz.cgi?E+PZ+3+AUA0001+ERTJ1VR683J+7+WW; ComponentLink2Description: Digi-Key Listing; ComponentLink2URL: https://www.digikey.com/product-detail/en/panasonic-electronic-components/ERT-J1VR683J/P10552TR-ND/269358; Price: 0.094; Resistance Tolerance: 5%; Device Package: 0603 (1608 Metric)
footprint FER 0603/1608
pins: 1, 2

## ERT-J1VS104FA
designator R?  Resistance in Ohms @ 25C: 100k
THERMISTOR NTC 100K OHM 1% 0603; Part Number: ERT-J1VS104FA; Manufacturer: Panasonic Electronic Components; TemperatureRange: -40C ~ 125C; B Value Tolerance: 3%; B25/50: 4330K; B25/85: 4390K; Power - Max: 100mW; Value: 100k; PartId: 16599; Supplier 1: Digi-Key; Supplier Part Number 1: P12016TR-ND; ComponentLink1Description: Datasheet; ComponentLink1URL: http://industrial.panasonic.com/www-cgi/jvcr13pz.cgi?E+PZ+3+AUA0001+ERTJ1VS104FA+7+WW; ComponentLink2Description: Digi-Key Listing; ComponentLink2URL: https://www.digikey.com/product-detail/en/panasonic-electronic-components/ERT-J1VS104FA/P12016TR-ND/526537; Price: 0.1742; Resistance Tolerance: 1%; Device Package: 0603 (1608 Metric)
footprint FER 0603/1608
pins: 1, 2

## ERT-J1VS104GA
designator R?  Resistance in Ohms @ 25C: 100k
THERMISTOR NTC 100K OHM 2% 0603; Part Number: ERT-J1VS104GA; Manufacturer: Panasonic Electronic Components; TemperatureRange: -40C ~ 125C; B Value Tolerance: 3%; B25/50: 4330K; B25/85: 4390K; Power - Max: 100mW; Value: 100k; PartId: 16591; Supplier 1: Digi-Key; Supplier Part Number 1: P12017TR-ND; ComponentLink1Description: Datasheet; ComponentLink1URL: http://industrial.panasonic.com/www-cgi/jvcr13pz.cgi?E+PZ+3+AUA0001+ERTJ1VS104GA+7+WW; ComponentLink2Description: Digi-Key Listing; ComponentLink2URL: https://www.digikey.com/product-detail/en/panasonic-electronic-components/ERT-J1VS104GA/P12017TR-ND/526538; Price: 0.1611; Resistance Tolerance: 2%; Device Package: 0603 (1608 Metric)
footprint FER 0603/1608
pins: 1, 2

## ERT-J1VS104HA
designator R?  Resistance in Ohms @ 25C: 100k
THERMISTOR NTC 100K OHM 3% 0603; Part Number: ERT-J1VS104HA; Manufacturer: Panasonic Electronic Components; TemperatureRange: -40C ~ 125C; B25/50: 4330K; B25/85: 4390K; Power - Max: 100mW; Value: 100k; PartId: 16578; Supplier 1: Digi-Key; Supplier Part Number 1: P12018TR-ND; ComponentLink1Description: Datasheet; ComponentLink1URL: http://industrial.panasonic.com/www-cgi/jvcr13pz.cgi?E+PZ+3+AUA0001+ERTJ1VS104HA+7+WW; ComponentLink2Description: Digi-Key Listing; ComponentLink2URL: https://www.digikey.com/product-detail/en/panasonic-electronic-components/ERT-J1VS104HA/P12018TR-ND/526539; Price: 0.1175; Resistance Tolerance: 3%; B Value Tolerance: 3%; Device Package: 0603 (1608 Metric)
footprint FER 0603/1608
pins: 1, 2

## ERT-J1VS104JA
designator R?  Resistance in Ohms @ 25C: 100k
THERMISTOR NTC 100K OHM 5% 0603; Part Number: ERT-J1VS104JA; Manufacturer: Panasonic Electronic Components; TemperatureRange: -40C ~ 125C; B Value Tolerance: 3%; B25/50: 4330K; B25/85: 4390K; Power - Max: 100mW; Value: 100k; PartId: 16601; Supplier 1: Digi-Key; Supplier Part Number 1: P12019TR-ND; ComponentLink1Description: Datasheet; ComponentLink1URL: http://industrial.panasonic.com/www-cgi/jvcr13pz.cgi?E+PZ+3+AUA0001+ERTJ1VS104JA+7+WW; ComponentLink2Description: Digi-Key Listing; ComponentLink2URL: https://www.digikey.com/product-detail/en/panasonic-electronic-components/ERT-J1VS104JA/P12019TR-ND/526540; Price: 0.094; Resistance Tolerance: 5%; Device Package: 0603 (1608 Metric)
footprint FER 0603/1608
pins: 1, 2

## ERT-J1VT102J
designator R?  Resistance in Ohms @ 25C: 1k
THERMISTOR NTC 1K OHM 5% 0603; Part Number: ERT-J1VT102J; Manufacturer: Panasonic Electronic Components; TemperatureRange: -40C ~ 125C; B Value Tolerance: 2%; B25/50: 4500K; B25/85: 4450K; Power - Max: 100mW; Value: 1k; PartId: 16603; Supplier 1: Digi-Key; Supplier Part Number 1: P10537TR-ND; ComponentLink1Description: Datasheet; ComponentLink1URL: http://industrial.panasonic.com/www-cgi/jvcr13pz.cgi?E+PZ+3+AUA0001+ERTJ1VT102J+7+WW; ComponentLink2Description: Digi-Key Listing; ComponentLink2URL: https://www.digikey.com/product-detail/en/panasonic-electronic-components/ERT-J1VT102J/P10537TR-ND/269343; Price: 0.094; Resistance Tolerance: 5%; Device Package: 0603 (1608 Metric)
footprint FER 0603/1608
pins: 1, 2

## ERT-J1VT152J
designator R?  Resistance in Ohms @ 25C: 1.5k
THERMISTOR NTC 1.5K OHM 5% 0603; Part Number: ERT-J1VT152J; Manufacturer: Panasonic Electronic Components; TemperatureRange: -40C ~ 125C; B Value Tolerance: 2%; B25/50: 4500K; B25/85: 4450K; Power - Max: 100mW; Value: 1.5k; PartId: 16576; Supplier 1: Digi-Key; Supplier Part Number 1: P10538TR-ND; ComponentLink1Description: Datasheet; ComponentLink1URL: http://industrial.panasonic.com/www-cgi/jvcr13pz.cgi?E+PZ+3+AUA0001+ERTJ1VT152J+7+WW; ComponentLink2Description: Digi-Key Listing; ComponentLink2URL: https://www.digikey.com/product-detail/en/panasonic-electronic-components/ERT-J1VT152J/P10538TR-ND/269344; Price: 0.094; Resistance Tolerance: 5%; Device Package: 0603 (1608 Metric)
footprint FER 0603/1608
pins: 1, 2

## ERT-J1VT202J
designator R?  Resistance in Ohms @ 25C: 2k
THERMISTOR NTC 2.0K OHM 5% 0603; Part Number: ERT-J1VT202J; Manufacturer: Panasonic Electronic Components; Value: 2k; TemperatureRange: -40C ~ 125C; B Value Tolerance: 2%; B25/50: 4500K; B25/85: 4450K; Power - Max: 100mW; PartId: 16602; Supplier 1: Digi-Key; Supplier Part Number 1: P10539TR-ND; ComponentLink1Description: Datasheet; ComponentLink1URL: http://industrial.panasonic.com/www-cgi/jvcr13pz.cgi?E+PZ+3+AUA0001+ERTJ1VT202J+7+WW; ComponentLink2Description: Digi-Key Listing; ComponentLink2URL: https://www.digikey.com/product-detail/en/panasonic-electronic-components/ERT-J1VT202J/P10539TR-ND/269345; Price: 0.094; Resistance Tolerance: 5%; Device Package: 0603 (1608 Metric)
footprint FER 0603/1608
pins: 1, 2

## ERT-J1VT222J
designator R?  Resistance in Ohms @ 25C: 2.2k
THERMISTOR NTC 2.2K OHM 5% 0603; Part Number: ERT-J1VT222J; Manufacturer: Panasonic Electronic Components; TemperatureRange: -40C ~ 125C; B Value Tolerance: 2%; B25/50: 4500K; B25/85: 4450K; Power - Max: 100mW; Value: 2.2k; PartId: 16633; Supplier 1: Digi-Key; Supplier Part Number 1: P10540TR-ND; ComponentLink1Description: Datasheet; ComponentLink1URL: http://industrial.panasonic.com/www-cgi/jvcr13pz.cgi?E+PZ+3+AUA0001+ERTJ1VT222J+7+WW; ComponentLink2Description: Digi-Key Listing; ComponentLink2URL: https://www.digikey.com/product-detail/en/panasonic-electronic-components/ERT-J1VT222J/P10540TR-ND/269346; Price: 0.094; Resistance Tolerance: 5%; Device Package: 0603 (1608 Metric)
footprint FER 0603/1608
pins: 1, 2

## ERT-J1VT302J
designator R?  Resistance in Ohms @ 25C: 3k
THERMISTOR NTC 3.0K OHM 5% 0603; Part Number: ERT-J1VT302J; Manufacturer: Panasonic Electronic Components; Value: 3k; TemperatureRange: -40C ~ 125C; B Value Tolerance: 2%; B25/50: 4500K; B25/85: 4450K; Power - Max: 100mW; PartId: 16682; Supplier 1: Digi-Key; Supplier Part Number 1: P10541TR-ND; ComponentLink1Description: Datasheet; ComponentLink1URL: http://industrial.panasonic.com/www-cgi/jvcr13pz.cgi?E+PZ+3+AUA0001+ERTJ1VT302J+7+WW; ComponentLink2Description: Digi-Key Listing; ComponentLink2URL: https://www.digikey.com/product-detail/en/panasonic-electronic-components/ERT-J1VT302J/P10541TR-ND/269347; Price: 0.094; Resistance Tolerance: 5%; Device Package: 0603 (1608 Metric)
footprint FER 0603/1608
pins: 1, 2

## ERT-J1VT332J
designator R?  Resistance in Ohms @ 25C: 3.3k
THERMISTOR NTC 3.3K OHM 5% 0603; Part Number: ERT-J1VT332J; Manufacturer: Panasonic Electronic Components; TemperatureRange: -40C ~ 125C; B Value Tolerance: 2%; B25/50: 4500K; B25/85: 4450K; Power - Max: 100mW; Value: 3.3k; PartId: 16631; Supplier 1: Digi-Key; Supplier Part Number 1: P10542TR-ND; ComponentLink1Description: Datasheet; ComponentLink1URL: http://industrial.panasonic.com/www-cgi/jvcr13pz.cgi?E+PZ+3+AUA0001+ERTJ1VT332J+7+WW; ComponentLink2Description: Digi-Key Listing; ComponentLink2URL: https://www.digikey.com/product-detail/en/panasonic-electronic-components/ERT-J1VT332J/P10542TR-ND/269348; Price: 0.094; Resistance Tolerance: 5%; Device Package: 0603 (1608 Metric)
footprint FER 0603/1608
pins: 1, 2

## ERT-J1VV104J
designator R?  Resistance in Ohms @ 25C: 100k
THERMISTOR NTC 100K OHM 5% 0603; Part Number: ERT-J1VV104J; Manufacturer: Panasonic Electronic Components; TemperatureRange: -40C ~ 125C; B Value Tolerance: 2%; B25/50: 4700K; B25/85: 4750K; Power - Max: 100mW; Value: 100k; PartId: 16597; Supplier 1: Digi-Key; Supplier Part Number 1: P10555TR-ND; ComponentLink1Description: Datasheet; ComponentLink1URL: http://industrial.panasonic.com/www-cgi/jvcr13pz.cgi?E+PZ+3+AUA0001+ERTJ1VV104J+7+WW; ComponentLink2Description: Digi-Key Listing; ComponentLink2URL: https://www.digikey.com/product-detail/en/panasonic-electronic-components/ERT-J1VV104J/P10555TR-ND/269361; Price: 0.094; Resistance Tolerance: 5%; Device Package: 0603 (1608 Metric)
footprint FER 0603/1608
pins: 1, 2

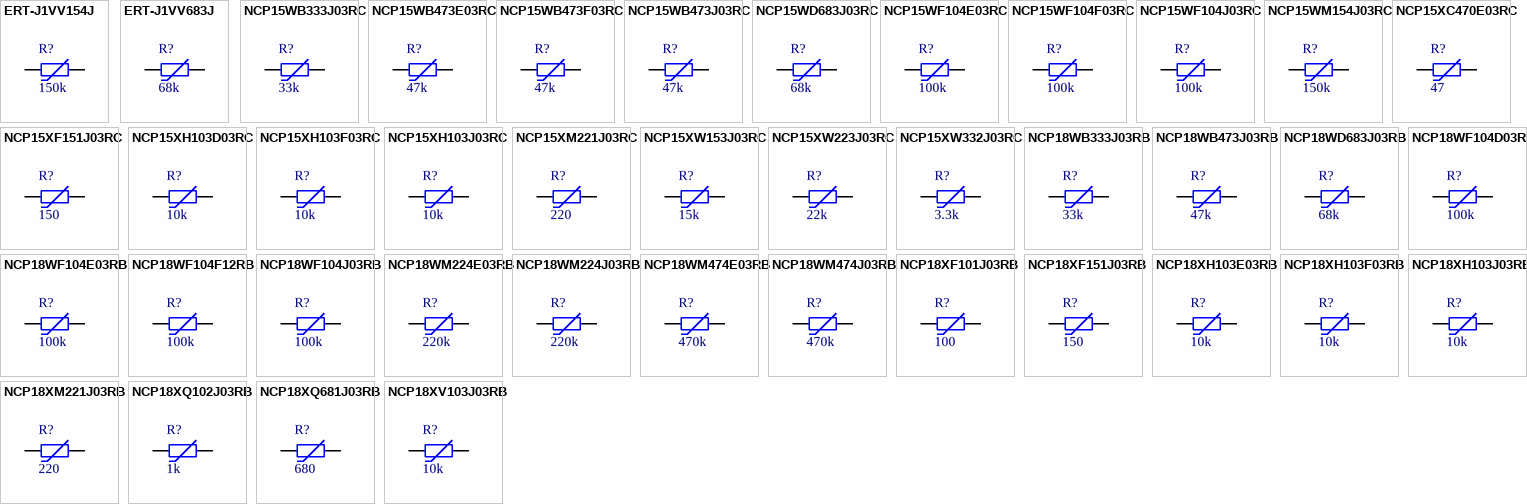
[diagram p3: symbols ERT-J1VV154J to NCP18XV103J03RB]

## ERT-J1VV154J
designator R?  Resistance in Ohms @ 25C: 150k
THERMISTOR NTC 150K OHM 5% 0603; Part Number: ERT-J1VV154J; Manufacturer: Panasonic Electronic Components; TemperatureRange: -40C ~ 125C; B Value Tolerance: 2%; B25/50: 4700K; B25/85: 4750K; Power - Max: 100mW; Value: 150k; PartId: 16691; Supplier 1: Digi-Key; Supplier Part Number 1: P10556TR-ND; ComponentLink1Description: Datasheet; ComponentLink1URL: http://industrial.panasonic.com/www-cgi/jvcr13pz.cgi?E+PZ+3+AUA0001+ERTJ1VV154J+7+WW; ComponentLink2Description: Digi-Key Listing; ComponentLink2URL: https://www.digikey.com/product-detail/en/panasonic-electronic-components/ERT-J1VV154J/P10556TR-ND/269362; Price: 0.094; Resistance Tolerance: 5%; Device Package: 0603 (1608 Metric)
footprint FER 0603/1608
pins: 1, 2

## ERT-J1VV683J
designator R?  Resistance in Ohms @ 25C: 68k
THERMISTOR NTC 68K OHM 5% 0603; Part Number: ERT-J1VV683J; Manufacturer: Panasonic Electronic Components; TemperatureRange: -40C ~ 125C; B Value Tolerance: 2%; B25/50: 4700K; B25/85: 4750K; Power - Max: 100mW; Value: 68k; PartId: 16676; Supplier 1: Digi-Key; Supplier Part Number 1: P10554TR-ND; ComponentLink1Description: Datasheet; ComponentLink1URL: http://industrial.panasonic.com/www-cgi/jvcr13pz.cgi?E+PZ+3+AUA0001+ERTJ1VV683J+7+WW; ComponentLink2Description: Digi-Key Listing; ComponentLink2URL: https://www.digikey.com/product-detail/en/panasonic-electronic-components/ERT-J1VV683J/P10554TR-ND/269360; Price: 0.094; Resistance Tolerance: 5%; Device Package: 0603 (1608 Metric)
footprint FER 0603/1608
pins: 1, 2

## NCP15WB333J03RC
designator R?  Resistance in Ohms @ 25C: 33k
THERMISTOR 33K OHM NTC 0402 SMD; Part Number: NCP15WB333J03RC; Manufacturer: Murata Electronics North America; TemperatureRange: -40C ~ 125C; Resistance Tolerance: 5%; B Value Tolerance: 3%; B25/50: 4050K; B25/85: 4108K; B25/100: 4131K; Power - Max: 100mW; Value: 33k; PartId: 16559; Supplier 1: Digi-Key; Supplier Part Number 1: 490-2401-2-ND; ComponentLink1Description: Datasheet; ComponentLink1URL: http://www.murata.com/~/media/webrenewal/support/library/catalog/products/thermistor/ntc/r44e.ashx; ComponentLink2Description: Digi-Key Listing; ComponentLink2URL: https://www.digikey.com/product-detail/en/murata-electronics-north-america/NCP15WB333J03RC/490-2401-2-ND/588422; Price: 0.0408; Device Package: 0402 (1005 Metric)
footprint FER 0402/1005
pins: 1, 2

## NCP15WB473E03RC
designator R?  Resistance in Ohms @ 25C: 47k
THERMISTOR 47K OHM NTC 0402 SMD; Part Number: NCP15WB473E03RC; Manufacturer: Murata Electronics North America; TemperatureRange: -40C ~ 125C; Resistance Tolerance: 3%; B Value Tolerance: 1%; B25/50: 4050K; B25/85: 4108K; B25/100: 4131K; Power - Max: 100mW; Value: 47k; PartId: 16570; Supplier 1: Digi-Key; Supplier Part Number 1: 490-6937-2-ND; ComponentLink1Description: Datasheet; ComponentLink1URL: http://www.murata.com/~/media/webrenewal/support/library/catalog/products/thermistor/ntc/r44e.ashx; ComponentLink2Description: Digi-Key Listing; ComponentLink2URL: https://www.digikey.com/product-detail/en/murata-electronics-north-america/NCP15WB473E03RC/490-6937-2-ND/2595072; Price: 0.0285; Device Package: 0402 (1005 Metric)
footprint FER 0402/1005
pins: 1, 2

## NCP15WB473F03RC
designator R?  Resistance in Ohms @ 25C: 47k
THERMISTOR 47K OHM NTC 0402 SMD; Part Number: NCP15WB473F03RC; Manufacturer: Murata Electronics North America; TemperatureRange: -40C ~ 125C; Resistance Tolerance: 1%; B25/50: 4050K; B25/85: 4108K; B25/100: 4131K; Power - Max: 100mW; Value: 47k; PartId: 16491; Supplier 1: Digi-Key; Supplier Part Number 1: 490-4802-2-ND; ComponentLink1Description: Datasheet; ComponentLink1URL: http://www.murata.com/~/media/webrenewal/support/library/catalog/products/thermistor/ntc/r44e.ashx; ComponentLink2Description: Digi-Key Listing; ComponentLink2URL: https://www.digikey.com/product-detail/en/murata-electronics-north-america/NCP15WB473F03RC/490-4802-2-ND/1644667; Price: 0.0372; B Value Tolerance: 1%; Device Package: 0402 (1005 Metric)
footprint FER 0402/1005
pins: 1, 2

## NCP15WB473J03RC
designator R?  Resistance in Ohms @ 25C: 47k
THERMISTOR 47K OHM NTC 0402 SMD; Part Number: NCP15WB473J03RC; Manufacturer: Murata Electronics North America; TemperatureRange: -40C ~ 125C; Resistance Tolerance: 5%; B Value Tolerance: 1%; B25/50: 4050K; B25/85: 4108K; B25/100: 4131K; Power - Max: 100mW; Value: 47k; PartId: 16490; Supplier 1: Digi-Key; Supplier Part Number 1: 490-2402-2-ND; ComponentLink1Description: Datasheet; ComponentLink1URL: http://www.murata.com/~/media/webrenewal/support/library/catalog/products/thermistor/ntc/r44e.ashx; ComponentLink2Description: Digi-Key Listing; ComponentLink2URL: https://www.digikey.com/product-detail/en/murata-electronics-north-america/NCP15WB473J03RC/490-2402-2-ND/588423; Price: 0.0314; Device Package: 0402 (1005 Metric)
footprint FER 0402/1005
pins: 1, 2

## NCP15WD683J03RC
designator R?  Resistance in Ohms @ 25C: 68k
THERMISTOR 68K OHM NTC 0402 SMD; Part Number: NCP15WD683J03RC; Manufacturer: Murata Electronics North America; TemperatureRange: -40C ~ 125C; Resistance Tolerance: 5%; B Value Tolerance: 3%; B25/50: 4150K; B25/85: 4209K; B25/100: 4232K; Power - Max: 100mW; Value: 68k; PartId: 16560; Supplier 1: Digi-Key; Supplier Part Number 1: 490-2403-2-ND; ComponentLink1Description: Datasheet; ComponentLink1URL: http://www.murata.com/~/media/webrenewal/support/library/catalog/products/thermistor/ntc/r44e.ashx; ComponentLink2Description: Digi-Key Listing; ComponentLink2URL: https://www.digikey.com/product-detail/en/murata-electronics-north-america/NCP15WD683J03RC/490-2403-2-ND/588424; Price: 0.0401; Device Package: 0402 (1005 Metric)
footprint FER 0402/1005
pins: 1, 2

## NCP15WF104E03RC
designator R?  Resistance in Ohms @ 25C: 100k
THERMISTOR NTC 100K OHM 3% 0402; Part Number: NCP15WF104E03RC; Manufacturer: Murata Electronics North America; TemperatureRange: -40C ~ 125C; B Value Tolerance: 1%; B25/50: 4250K; B25/85: 4311K; B25/100: 4334K; Power - Max: 100mW; Value: 100k; PartId: 16561; Supplier 1: Digi-Key; Supplier Part Number 1: 490-6938-2-ND; ComponentLink1Description: Datasheet; ComponentLink1URL: http://www.murata.com/~/media/webrenewal/support/library/catalog/products/thermistor/ntc/r44e.ashx; ComponentLink2Description: Digi-Key Listing; ComponentLink2URL: https://www.digikey.com/product-detail/en/murata-electronics-north-america/NCP15WF104E03RC/490-6938-2-ND/2595075; Price: 0.0345; Resistance Tolerance: 3%; Device Package: 0402 (1005 Metric)
footprint FER 0402/1005
pins: 1, 2